# Altium schematic symbol library Motor.SchLib: 3 symbols
Pins are listed as number, name and electrical type; pins without a type are passive.

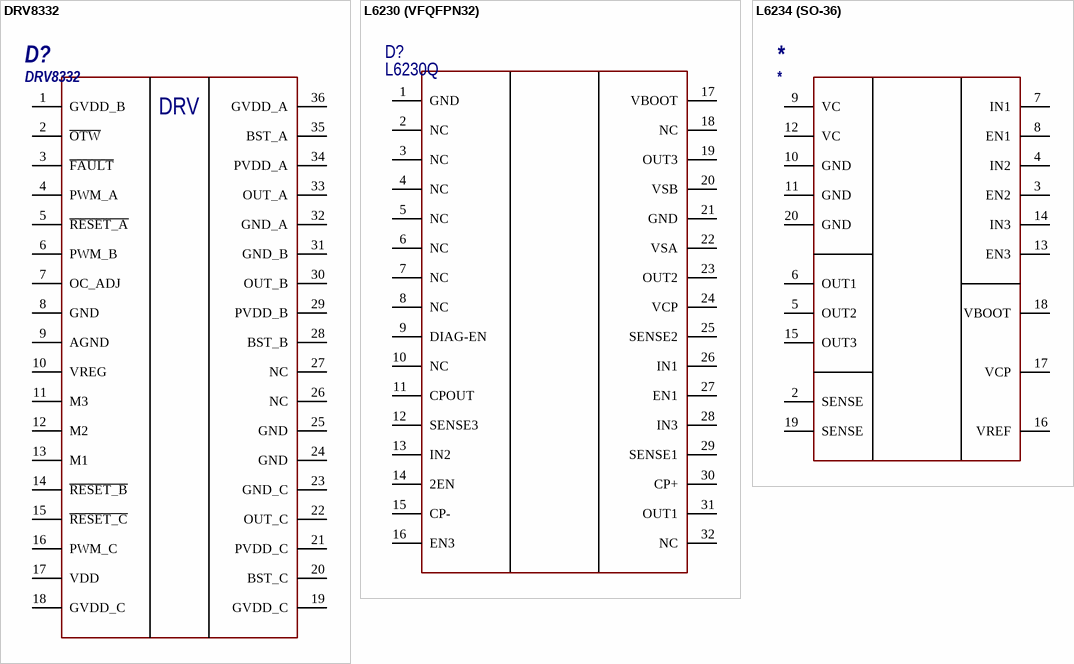
[diagram p0: symbols DRV8332 to L6234 (SO-36)]

## DRV8332
designator D?
3-phase 8A motor driver; Manufacturer: TEXAS INSTRUMENTS; Model: DRV8332; Package: HSSOP-36
pins: 1 GVDD_B, 2 ~{OTW}, 3 ~{FAULT}, 4 PWM_A, 5 ~{RESET_A}, 6 PWM_B, 7 OC_ADJ, 8 GND, 9 AGND, 10 VREG, 11 M3, 12 M2, 13 M1, 14 ~{RESET_B}, 15 ~{RESET_C}, 16 PWM_C, 17 VDD, 18 GVDD_C, 19 GVDD_C, 20 BST_C, 21 PVDD_C, 22 OUT_C, 23 GND_C, 24 GND, 25 GND, 26 NC, 27 NC, 28 BST_B, 29 PVDD_B, 30 OUT_B, 31 GND_B, 32 GND_A, 33 OUT_A, 34 PVDD_A, 35 BST_A, 36 GVDD_A
text: DRV

## L6230 (VFQFPN32)
designator D?, comment L6230Q
3-phase brashless motor driber; Manufacturer: STMicroelectronics; HelpURL: https://www.st.com/en/motor-drivers/l6230.html; Model: L6230Q
footprint 32-VFQPN
pins: 1 GND, 2 NC, 3 NC, 4 NC, 5 NC, 6 NC, 7 NC, 8 NC, 9 DIAG-EN, 10 NC, 11 CPOUT, 12 SENSE3, 13 IN2, 14 2EN, 15 CP-, 16 EN3, 17 VBOOT (power), 18 NC (power), 19 OUT3 (power), 20 VSB (power), 21 GND (power), 22 VSA (power), 23 OUT2 (power), 24 VCP (power), 25 SENSE2 (power), 26 IN1 (power), 27 EN1 (power), 28 IN3 (power), 29 SENSE1 (power), 30 CP+ (power), 31 OUT1 (power), 32 NC (power)

## L6234 (SO-36)
designator *
pins: 2 SENSE, 3 EN2, 4 IN2, 5 OUT2, 6 OUT1, 7 IN1, 8 EN1, 9 VC, 10 GND, 11 GND, 12 VC, 13 EN3, 14 IN3, 15 OUT3, 16 VREF, 17 VCP, 18 VBOOT, 19 SENSE, 20 GND